# Altium footprint library Diode_bridge.PcbLib: 2 footprints
Each footprint in its own frame and in the unit in brackets; x right, y up, seen from the top. Pads: shape width x height; smd on the part's side, far side on the other; paste and mask are expansions set on the pad; w line width, h text height; cw(c..) or ccw(c..) is an arc to the next point about the centre after c.
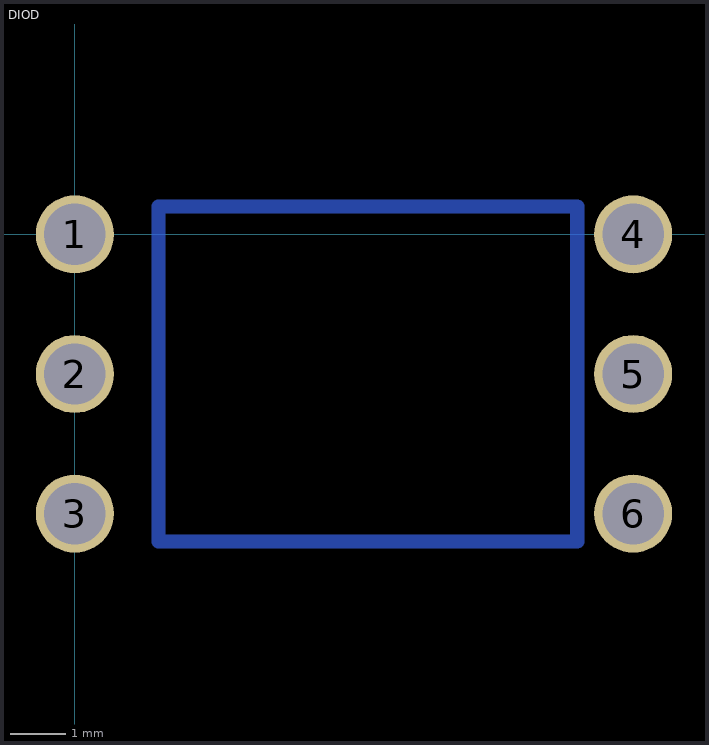
[diagram p0: the footprints below, top view; thin cyan lines are the x and y axes]

## DIOD [mm]
pads (6):
  round 1.4 hole 1.1: 1(0,0) 2(0,-2.5) 3(0,-5) 4(10,0) 5(10,-2.5) 6(10,-5)
Bottom Layer:
  lines w0.254: 1.5,-5.5 8.5,-5.5 9,-5.5 9,0.5 1.5,0.5 1.5,-5.5

## PCBComponent_1 [mm]